# EAGLE library part RS6E120BGTB1 (library RS6E120BGTB1)
MOSFET 30V 270A HSOP8, Power MOSFET Source: Datasheet <https://fscdn.rohm.com//en/products/databook/datasheet/discrete/transistor/mosfet/rs6e120bgtb1-e.pdf>
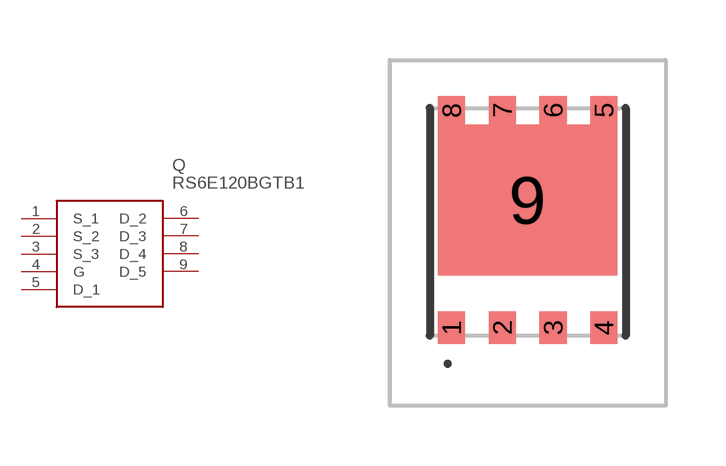
[diagram p0: symbol with the pads of RS6G120BHTB1; footprint RS6G120BHTB1]

Designator prefix Q

## RS6E120BGTB1 (Description: MOSFET 30V 270A HSOP8, Power MOSFET; Height: 1.1mm; Manufacturer_Name: ROHM Semiconductor; Manufacturer_Part_Number: RS6E120BGTB1)  [RS6G120BHTB1]
1  S_1
2  S_2
3  S_3
4  G
5  D_1
6  D_2
7  D_3
8  D_4
9  D_5

## Footprint RS6G120BHTB1 (pad centres in mm)
HSOP8 ( TB1 24
smd 0.68 x 0.81: 1 -1.905,-5.085; 2 -0.635,-5.085; 3 0.635,-5.085; 4 1.905,-5.085
smd 0.68 x 0.71: 5 1.905,0.355; 6 0.635,0.355; 7 -0.635,0.355; 8 -1.905,0.355
smd 4.49 x 3.78: 9 0,-1.89